# Altium footprint library SOT-363.PcbLib: 1 footprints
Each footprint in its own frame and in the unit in brackets; x right, y up, seen from the top. Pads: shape width x height; smd on the part's side, far side on the other; paste and mask are expansions set on the pad; w line width, h text height; cw(c..) or ccw(c..) is an arc to the next point about the centre after c.
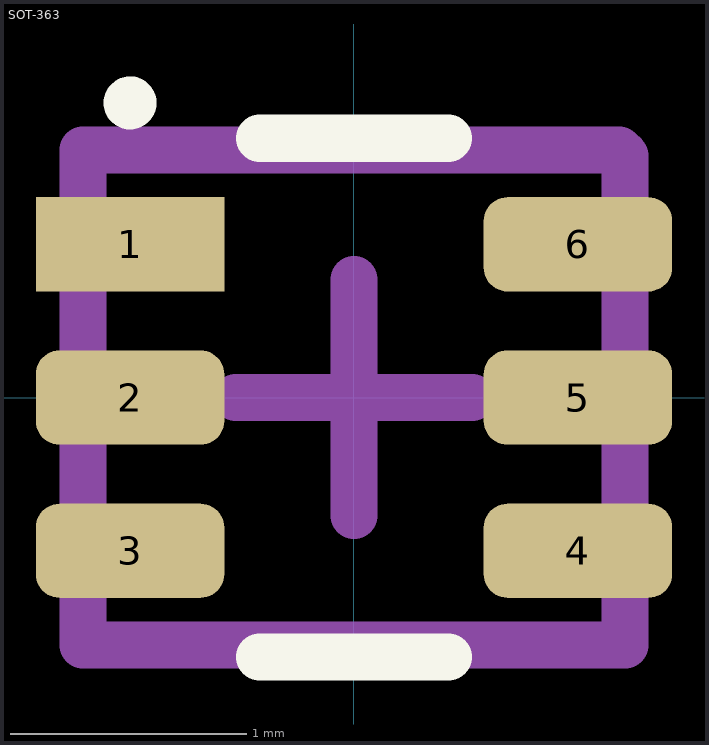
[diagram p0: the footprint, top view; thin cyan lines are the x and y axes]

## SOT-363 [mm]
pads (6):
  rect 0.8x0.4 smd paste+0 mask+0.051: 1(-0.95,0.65)
  rrect50% 0.8x0.4 smd paste+0 mask+0.051: 2(-0.95,0) 3(-0.95,-0.65) 4(0.95,-0.65) 5(0.95,0) 6(0.95,0.65)
Top Overlay:
  circle w0.125: c-0.95,1.25 r0.05
  lines w0.2: -0.4,-1.1 0.4,-1.1 ; -0.4,1.1 0.4,1.1
Top Designator:
  text ".Designator" at -7.618,-0.427 h1.52
3D Body:
  lines w0.2: -1.15,-1.05 1.15,-1.05 1.15,1.025 1.125,1.05 -1.15,1.05 -1.15,-1.05
Center Cross:
  lines w0.2: -0.5,0 0,0 ; 0,-0.5 0,0 ; 0,0.5 0,0 ; 0.5,0 0,0
3D body "SOT-363.STEP": height 1, standoff 0, extent -1.15,-1.05 1.15,1.05